# EAGLE library part LMV341 (library ic-TI)
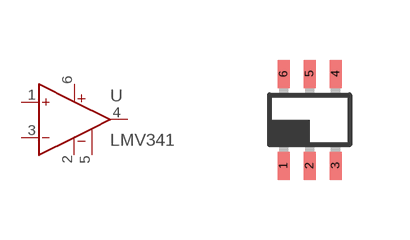
[diagram p35: symbol with the pads of SC70-6; footprint SC70-6]

Designator prefix U

## LMV341DCK  [SC70-6]
1  IN+  in
2  V-  in
3  IN-  in
4  OUT  out
5  !SHDN  in
6  V+  in

## Footprint SC70-6 (pad centres in mm)
smd 0.3 x 0.7: 1 -0.65,-1.15; 2 0,-1.15; 3 0.65,-1.15; 4 0.65,1.15; 5 0,1.15; 6 -0.65,1.15